# Altium footprint library TMC6100-LA.PcbLib: 3 footprints
Each footprint in its own frame and in the unit in brackets; x right, y up, seen from the top. Pads: shape width x height; smd on the part's side, far side on the other; paste and mask are expansions set on the pad; w line width, h text height; cw(c..) or ccw(c..) is an arc to the next point about the centre after c.
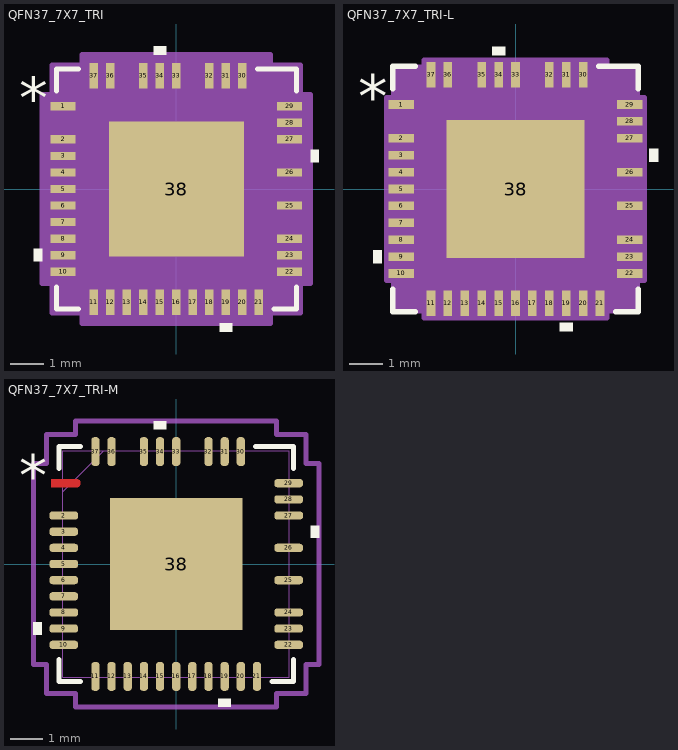
[diagram p0: the footprints below, top view; thin cyan lines are the x and y axes]

## QFN37_7X7_TRI [mil]
pads (38):
  rect 30x10 smd paste+0 mask+0: 1(-135,98.43) 2(-135,59.06) 3(-135,39.37) 4(-135,19.68) 5(-135,0) 6(-135,-19.68) 7(-135,-39.37) 8(-135,-59.06) 9(-135,-78.74) 10(-135,-98.43) 22(135,-98.43) 23(135,-78.74) 24(135,-59.06) 25(135,-19.68) 26(135,19.68) 27(135,59.06) 28(135,78.74) 29(135,98.43)
  rect 10x30 smd paste+0 mask+0: 11(-98.43,-135) 12(-78.74,-135) 13(-59.06,-135) 14(-39.37,-135) 15(-19.68,-135) 16(0,-135) 17(19.68,-135) 18(39.37,-135) 19(59.06,-135) 20(78.74,-135) 21(98.43,-135) 30(78.74,135) 31(59.06,135) 32(39.37,135) 33(0,135) 34(-19.68,135) 35(-39.37,135) 36(-78.74,135) 37(-98.43,135)
  rect 161x161 smd paste-80 mask+0: 38(0,0)
Top Overlay:
  region: -160,-71.24 -170,-71.24 -170,-86.24 -160,-86.24
  region: 66.56,-160 51.56,-160 51.56,-170 66.56,-170
  region: 160,46.87 170,46.87 170,31.87 160,31.87
  region: -12.19,160 -27.18,160 -27.18,170 -12.19,170
  lines w6: -143,-116.53 -143,-143 -116.53,-143 ; -143,116.53 -143,143 -116.53,143 ; 96.84,143 143,143 143,116.53 ; 116.53,-143 143,-143 143,-116.53
  text "*" at -187.5,83.27 h50
Top Paste:
  region: -30.77,76.56 -76.56,76.56 -76.56,30.77 -30.77,30.77
  region: -30.77,22.9 -76.56,22.9 -76.56,-22.9 -30.77,-22.9
  region: -30.77,-30.77 -76.56,-30.77 -76.56,-76.56 -30.77,-76.56
  region: 22.9,76.56 -22.9,76.56 -22.9,30.77 22.9,30.77
  region: 22.9,22.9 -22.9,22.9 -22.9,-22.9 22.9,-22.9
  region: 22.9,-30.77 -22.9,-30.77 -22.9,-76.56 22.9,-76.56
  region: 76.56,76.56 30.77,76.56 30.77,30.77 76.56,30.77
  region: 76.56,22.9 30.77,22.9 30.77,-22.9 76.56,-22.9
  region: 76.56,-30.77 30.77,-30.77 30.77,-76.56 76.56,-76.56
Mechanical 13:
  lines w1: -138,88 -88,138 ; -138,-138 138,-138 138,138 -138,138 -138,-138 ; -138,-103.43 -138,-93.43 -138,-103.43 ; -138,-83.74 -138,-73.74 -138,-83.74 ; -138,-64.06 -138,-54.06 -138,-64.06 ; -138,-44.37 -138,-34.37 -138,-44.37 ; -138,-24.68 -138,-14.69 -138,-24.68 ; -138,-5 -138,5 -138,-5 ; -138,14.69 -138,24.68 -138,14.69 ; -138,34.37 -138,44.37 -138,34.37 ; -138,54.06 -138,64.06 -138,54.06 ; -138,73.74 -138,83.74 -138,73.74 ; -138,93.43 -138,103.43 -138,93.43 ; -103.43,-138 -93.43,-138 -103.43,-138 ; -103.43,138 -93.43,138 -103.43,138 ; -83.74,-138 -73.74,-138 -83.74,-138 ; -83.74,138 -73.74,138 -83.74,138 ; -64.06,-138 -54.06,-138 -64.06,-138 ; -64.06,138 -54.06,138 -64.06,138 ; -44.37,-138 -34.37,-138 -44.37,-138 ; -44.37,138 -34.37,138 -44.37,138 ; -24.68,-138 -14.69,-138 -24.68,-138 ; -24.68,138 -14.69,138 -24.68,138 ; -5,-138 5,-138 -5,-138 ; -5,138 5,138 -5,138 ; 14.69,-138 24.68,-138 14.69,-138 ; 14.69,138 24.68,138 14.69,138 ; 34.37,-138 44.37,-138 34.37,-138 ; 34.37,138 44.37,138 34.37,138 ; 54.06,-138 64.06,-138 54.06,-138 ; 54.06,138 64.06,138 54.06,138 ; 73.74,-138 83.74,-138 73.74,-138 ; 73.74,138 83.74,138 73.74,138 ; 93.43,-138 103.43,-138 93.43,-138 ; 93.43,138 103.43,138 93.43,138 ; 138,-103.43 138,-93.43 138,-103.43 ; 138,-83.74 138,-73.74 138,-83.74 ; 138,-64.06 138,-54.06 138,-64.06 ; 138,-44.37 138,-34.37 138,-44.37 ; 138,-24.68 138,-14.69 138,-24.68 ; 138,-5 138,5 138,-5 ; 138,14.69 138,24.68 138,14.69 ; 138,34.37 138,44.37 138,34.37 ; 138,54.06 138,64.06 138,54.06 ; 138,73.74 138,83.74 138,73.74 ; 138,93.43 138,103.43 138,93.43
  text "*" at -132.5,83.27 h50
Mechanical 15:
  region: -112.43,-148 -148,-148 -148,-112.43 -160,-112.43 -160,112.43 -148,112.43 -148,148 -112.43,148 -112.43,160 112.43,160 112.43,148 148,148 148,112.43 160,112.43 160,-112.43 148,-112.43 148,-148 112.43,-148 112.43,-160 -112.43,-160
  lines w6: -160,-112.43 -148,-112.43 -148,-148 -112.43,-148 -112.43,-160 112.43,-160 112.43,-148 148,-148 148,-112.43 160,-112.43 160,112.43 148,112.43 148,148 112.43,148 112.43,160 -112.43,160 -112.43,148 -148,148 -148,112.43 -160,112.43 -160,-112.43
3D body "QFN37_7X7_TRI.step": height 35.12, standoff 0, extent -137.99,-137.99 137.99,137.99

## QFN37_7X7_TRI-L [mil]
pads (38):
  rect 30x10 smd paste+0 mask+0: 1(-133,98.43) 2(-133,59.06) 3(-133,39.37) 4(-133,19.68) 5(-133,0) 6(-133,-19.68) 7(-133,-39.37) 8(-133,-59.06) 9(-133,-78.74) 10(-133,-98.43) 22(133,-98.43) 23(133,-78.74) 24(133,-59.06) 25(133,-19.68) 26(133,19.68) 27(133,59.06) 28(133,78.74) 29(133,98.43)
  rect 10x30 smd paste+0 mask+0: 11(-98.43,-133) 12(-78.74,-133) 13(-59.06,-133) 14(-39.37,-133) 15(-19.68,-133) 16(0,-133) 17(19.68,-133) 18(39.37,-133) 19(59.06,-133) 20(78.74,-133) 21(98.43,-133) 30(78.74,133) 31(59.06,133) 32(39.37,133) 33(0,133) 34(-19.68,133) 35(-39.37,133) 36(-78.74,133) 37(-98.43,133)
  rect 161x161 smd paste-80 mask+0: 38(0,0)
Top Overlay:
  region: -156,-71.24 -166,-71.24 -166,-86.24 -156,-86.24
  region: 66.56,-156 51.56,-156 51.56,-166 66.56,-166
  region: 156,46.87 166,46.87 166,31.87 156,31.87
  region: -12.19,156 -27.18,156 -27.18,166 -12.19,166
  lines w6: -143,-116.53 -143,-143 -116.53,-143 ; -143,116.53 -143,143 -116.53,143 ; 96.84,143 143,143 143,116.53 ; 116.53,-143 143,-143 143,-116.53
  text "*" at -183.5,83.27 h50
Top Paste:
  region: -30.77,76.56 -76.56,76.56 -76.56,30.77 -30.77,30.77
  region: -30.77,22.9 -76.56,22.9 -76.56,-22.9 -30.77,-22.9
  region: -30.77,-30.77 -76.56,-30.77 -76.56,-76.56 -30.77,-76.56
  region: 22.9,76.56 -22.9,76.56 -22.9,30.77 22.9,30.77
  region: 22.9,22.9 -22.9,22.9 -22.9,-22.9 22.9,-22.9
  region: 22.9,-30.77 -22.9,-30.77 -22.9,-76.56 22.9,-76.56
  region: 76.56,76.56 30.77,76.56 30.77,30.77 76.56,30.77
  region: 76.56,22.9 30.77,22.9 30.77,-22.9 76.56,-22.9
  region: 76.56,-30.77 30.77,-30.77 30.77,-76.56 76.56,-76.56
Mechanical 13:
  lines w1: -138,88 -88,138 ; -138,-138 138,-138 138,138 -138,138 -138,-138 ; -138,-103.43 -138,-93.43 -138,-103.43 ; -138,-83.74 -138,-73.74 -138,-83.74 ; -138,-64.06 -138,-54.06 -138,-64.06 ; -138,-44.37 -138,-34.37 -138,-44.37 ; -138,-24.68 -138,-14.69 -138,-24.68 ; -138,-5 -138,5 -138,-5 ; -138,14.69 -138,24.68 -138,14.69 ; -138,34.37 -138,44.37 -138,34.37 ; -138,54.06 -138,64.06 -138,54.06 ; -138,73.74 -138,83.74 -138,73.74 ; -138,93.43 -138,103.43 -138,93.43 ; -103.43,-138 -93.43,-138 -103.43,-138 ; -103.43,138 -93.43,138 -103.43,138 ; -83.74,-138 -73.74,-138 -83.74,-138 ; -83.74,138 -73.74,138 -83.74,138 ; -64.06,-138 -54.06,-138 -64.06,-138 ; -64.06,138 -54.06,138 -64.06,138 ; -44.37,-138 -34.37,-138 -44.37,-138 ; -44.37,138 -34.37,138 -44.37,138 ; -24.68,-138 -14.69,-138 -24.68,-138 ; -24.68,138 -14.69,138 -24.68,138 ; -5,-138 5,-138 -5,-138 ; -5,138 5,138 -5,138 ; 14.69,-138 24.68,-138 14.69,-138 ; 14.69,138 24.68,138 14.69,138 ; 34.37,-138 44.37,-138 34.37,-138 ; 34.37,138 44.37,138 34.37,138 ; 54.06,-138 64.06,-138 54.06,-138 ; 54.06,138 64.06,138 54.06,138 ; 73.74,-138 83.74,-138 73.74,-138 ; 73.74,138 83.74,138 73.74,138 ; 93.43,-138 103.43,-138 93.43,-138 ; 93.43,138 103.43,138 93.43,138 ; 138,-103.43 138,-93.43 138,-103.43 ; 138,-83.74 138,-73.74 138,-83.74 ; 138,-64.06 138,-54.06 138,-64.06 ; 138,-44.37 138,-34.37 138,-44.37 ; 138,-24.68 138,-14.69 138,-24.68 ; 138,-5 138,5 138,-5 ; 138,14.69 138,24.68 138,14.69 ; 138,34.37 138,44.37 138,34.37 ; 138,54.06 138,64.06 138,54.06 ; 138,73.74 138,83.74 138,73.74 ; 138,93.43 138,103.43 138,93.43
  text "*" at -132.5,83.27 h50
Mechanical 15:
  region: -106.43,-142 -142,-142 -142,-106.43 -150,-106.43 -150,106.43 -142,106.43 -142,142 -106.43,142 -106.43,150 106.43,150 106.43,142 142,142 142,106.43 150,106.43 150,-106.43 142,-106.43 142,-142 106.43,-142 106.43,-150 -106.43,-150
  lines w6: -150,-106.43 -142,-106.43 -142,-142 -106.43,-142 -106.43,-150 106.43,-150 106.43,-142 142,-142 142,-106.43 150,-106.43 150,106.43 142,106.43 142,142 106.43,142 106.43,150 -106.43,150 -106.43,142 -142,142 -142,106.43 -150,106.43 -150,-106.43
3D body "QFN37_7X7_TRI.step": height 35.12, standoff 0, extent -137.99,-137.99 137.99,137.99

## QFN37_7X7_TRI-M [mil]
pads (38):
  round 1 smd paste+0 mask+0: 1(-137,98.43)
  rrect75% 35x10 smd paste+0 mask+0: 2(-137,59.06) 3(-137,39.37) 4(-137,19.68) 5(-137,0) 6(-137,-19.68) 7(-137,-39.37) 8(-137,-59.06) 9(-137,-78.74) 10(-137,-98.43) 22(137,-98.43) 23(137,-78.74) 24(137,-59.06) 25(137,-19.68) 26(137,19.68) 27(137,59.06) 28(137,78.74) 29(137,98.43)
  rrect75% 10x35 smd paste+0 mask+0: 11(-98.43,-137) 12(-78.74,-137) 13(-59.06,-137) 14(-39.37,-137) 15(-19.68,-137) 16(0,-137) 17(19.68,-137) 18(39.37,-137) 19(59.06,-137) 20(78.74,-137) 21(98.43,-137) 30(78.74,137) 31(59.06,137) 32(39.37,137) 33(0,137) 34(-19.68,137) 35(-39.37,137) 36(-78.74,137) 37(-98.43,137)
  rect 161x161 smd paste-80 mask+0: 38(0,0)
Top Layer:
  region: -152,93.43 -152,103.43 -120.75,103.43 -120,103.43 -118.63,102.85 -117.57,101.8 -117,100.42 -117,99.68 -117,97.18 -117,96.43 -117.57,95.05 -118.63,94 -120,93.43 -120.75,93.43
Top Overlay:
  region: -12.19,164 -27.18,164 -27.18,174 -12.19,174
  region: 164,46.87 174,46.87 174,31.87 164,31.87
  region: 66.56,-164 51.56,-164 51.56,-174 66.56,-174
  region: -164,-71.24 -174,-71.24 -174,-86.24 -164,-86.24
  lines w6: -143,-116.53 -143,-143 -116.53,-143 ; -143,116.53 -143,143 -116.53,143 ; 96.84,143 143,143 143,116.53 ; 116.53,-143 143,-143 143,-116.53
  text "*" at -191.5,83.27 h50
Top Paste:
  region: 76.56,-30.77 30.77,-30.77 30.77,-76.56 76.56,-76.56
  region: 76.56,22.9 30.77,22.9 30.77,-22.9 76.56,-22.9
  region: 76.56,76.56 30.77,76.56 30.77,30.77 76.56,30.77
  region: 22.9,-30.77 -22.9,-30.77 -22.9,-76.56 22.9,-76.56
  region: 22.9,22.9 -22.9,22.9 -22.9,-22.9 22.9,-22.9
  region: 22.9,76.56 -22.9,76.56 -22.9,30.77 22.9,30.77
  region: -30.77,-30.77 -76.56,-30.77 -76.56,-76.56 -30.77,-76.56
  region: -30.77,22.9 -76.56,22.9 -76.56,-22.9 -30.77,-22.9
  region: -30.77,76.56 -76.56,76.56 -76.56,30.77 -30.77,30.77
Mechanical 13:
  lines w1: -138,88 -88,138 ; -138,-138 -138,138 138,138 138,-138 -138,-138 ; -138,-103.43 -138,-93.43 -138,-103.43 ; -138,-83.74 -138,-73.74 -138,-83.74 ; -138,-64.06 -138,-54.06 -138,-64.06 ; -138,-44.37 -138,-34.37 -138,-44.37 ; -138,-24.68 -138,-14.69 -138,-24.68 ; -138,-5 -138,5 -138,-5 ; -138,14.69 -138,24.68 -138,14.69 ; -138,34.37 -138,44.37 -138,34.37 ; -138,54.06 -138,64.06 -138,54.06 ; -138,73.74 -138,83.74 -138,73.74 ; -138,93.43 -138,103.43 -138,93.43 ; -103.43,-138 -93.43,-138 -103.43,-138 ; -103.43,138 -93.43,138 -103.43,138 ; -83.74,-138 -73.74,-138 -83.74,-138 ; -83.74,138 -73.74,138 -83.74,138 ; -64.06,-138 -54.06,-138 -64.06,-138 ; -64.06,138 -54.06,138 -64.06,138 ; -44.37,-138 -34.37,-138 -44.37,-138 ; -44.37,138 -34.37,138 -44.37,138 ; -24.68,-138 -14.69,-138 -24.68,-138 ; -24.68,138 -14.69,138 -24.68,138 ; -5,-138 5,-138 -5,-138 ; -5,138 5,138 -5,138 ; 14.69,-138 24.68,-138 14.69,-138 ; 14.69,138 24.68,138 14.69,138 ; 34.37,-138 44.37,-138 34.37,-138 ; 34.37,138 44.37,138 34.37,138 ; 54.06,-138 64.06,-138 54.06,-138 ; 54.06,138 64.06,138 54.06,138 ; 73.74,-138 83.74,-138 73.74,-138 ; 73.74,138 83.74,138 73.74,138 ; 93.43,-138 103.43,-138 93.43,-138 ; 93.43,138 103.43,138 93.43,138 ; 138,-103.43 138,-93.43 138,-103.43 ; 138,-83.74 138,-73.74 138,-83.74 ; 138,-64.06 138,-54.06 138,-64.06 ; 138,-44.37 138,-34.37 138,-44.37 ; 138,-24.68 138,-14.69 138,-24.68 ; 138,-5 138,5 138,-5 ; 138,14.69 138,24.68 138,14.69 ; 138,34.37 138,44.37 138,34.37 ; 138,54.06 138,64.06 138,54.06 ; 138,73.74 138,83.74 138,73.74 ; 138,93.43 138,103.43 138,93.43
  text "*" at -132.5,83.27 h50
Mechanical 15:
  lines w6: -174,-122.43 -174,122.43 -158,122.43 -158,158 -122.43,158 -122.43,174 122.43,174 122.43,158 158,158 158,122.43 174,122.43 174,-122.43 158,-122.43 158,-158 122.43,-158 122.43,-174 -122.43,-174 -122.43,-158 -158,-158 -158,-122.43 -174,-122.43
3D body "QFN37_7X7_TRI.step": height 35.12, standoff 0, extent -137.99,-137.99 137.99,137.99